# EAGLE library part LTC1773 (library diode-20CJQ030)
Linear Tech's LTC1773 Synchronous Step-Down DC/DC Controller Description: The LTC®1773 is a current mode synchronous buck regulator controller that drives external complementary power MOSFETs using a fixed frequency architecture. The operating supply range is from 2.65V to 8.5V, making it suitable for 1- or 2-cell lithium-ion battery powered applications. Burst ModeTM operation provides high efficiency at low load currents. 100% duty cycle provides low dropout operation which extends operating time in battery- operated systems. The operating frequency is internally set at 550kHz, allowing the use of small surface mount inductors. For switching- noise sensitive applications, it can be synchronized up to 750kHz. Peak current limit is user programmable with an external high side sense resistor. A SYNC/FCB control pin guarantees regulation of secondary windings regardless of load on the main output by forcing continuous operation. Burst Mode operation is inhibited during synchronization or when the SYNC/FCB pin is pulled low to reduce noise and RF interference. Soft start is provided by an external capacitor. Synchronous rectification increases efficiency and eliminates the need for a Schottky diode, saving components and board space. Features: High Efficiency: Up to 95% Constant Frequency 550kHz Operation VIN from 2.65V to 8.5V VOUT from 0.8V to VIN OPTI-LOOPTM Compensation Minimizes COUT Synchronizable up to 750kHz Selectable Burst Mode Operation Low Quiescent Current: 80mA Low Dropout Operation: 100% Duty Cycle Secondary Winding Regulation Soft-Start Current Mode Operation for Excellent Line and Load Transient Response Low Shutdown IQ = 10mA ±1.5% Reference Accuracy Precision 2.5V Undervoltage Lockout Available in 10-Lead MSOP Applications: Cellular Telephones RF PA Supplies Portable Instruments Wireless MODEMS Distributed Power Systems Notebook and Palm Top Computers, PDAs Single and Dual Cell Lithium-Ion Powered Devices Please send any comments to: messi@users.sourceforge.net
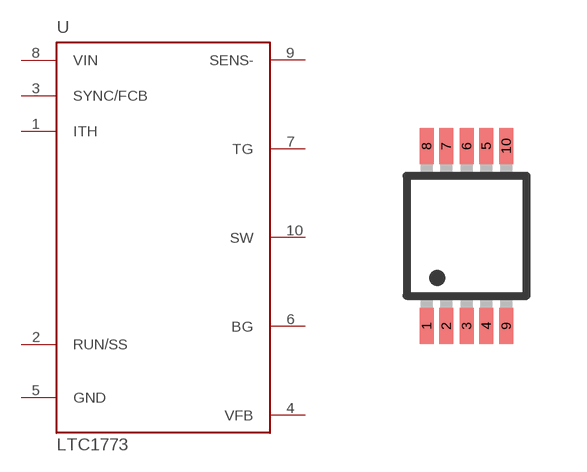
[diagram p63: symbol with the pads of MSOP10; footprint MSOP10]

Designator prefix U

## LTC1773  [MSOP10]
1  ITH  in
2  RUN/SS  in
3  SYNC/FCB  in
4  VFB  in
5  GND  pwr
6  BG  out
7  TG  out
8  VIN  pwr
9  SENS-  in
10  SW  out

## Footprint MSOP10 (pad centres in mm)
MSOP10
smd 0.35 x 0.9: 1 -1,-2.25; 2 -0.51,-2.25; 3 0,-2.25; 4 0.49,-2.25; 5 0.49,2.25; 6 0,2.25; 7 -0.51,2.25; 8 -1,2.25; 9 0.99,-2.25; 10 0.99,2.25